# Altium footprint library Footprints_integrated.PcbLib: 5 footprints
Each footprint in its own frame and in the unit in brackets; x right, y up, seen from the top. Pads: shape width x height; smd on the part's side, far side on the other; paste and mask are expansions set on the pad; w line width, h text height; cw(c..) or ccw(c..) is an arc to the next point about the centre after c.
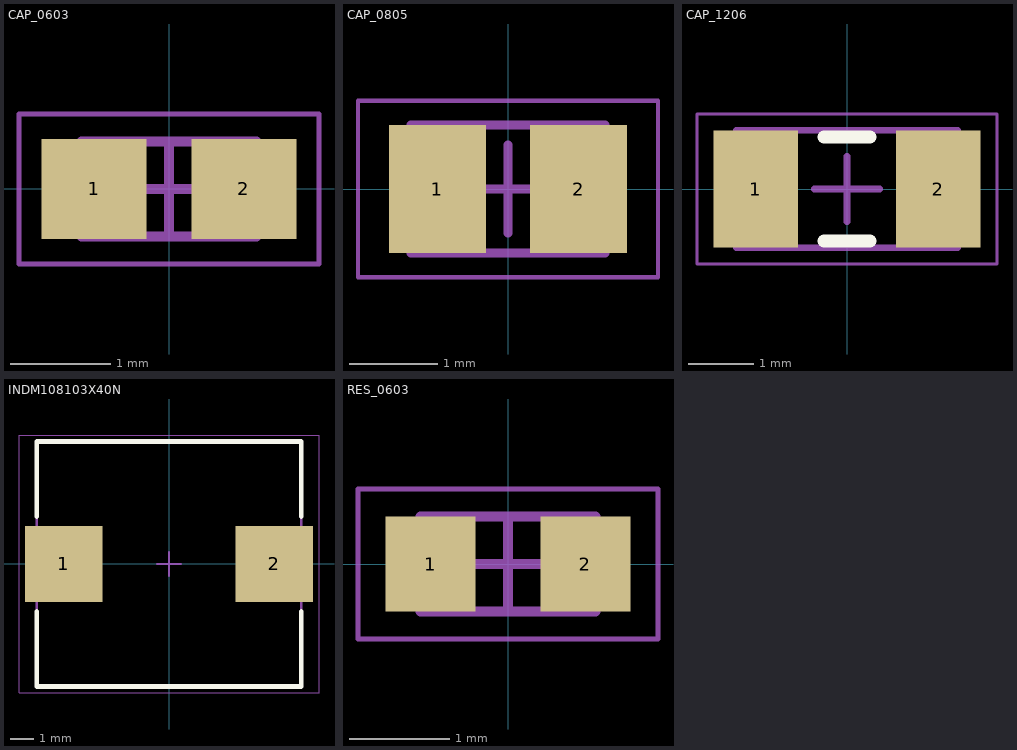
[diagram p0: the footprints below, top view; thin cyan lines are the x and y axes]

## CAP_0603 [mm] "Chip Capacitor, 2-Leads, Body 1.60x0.80mm, IPC Medium Density"
height 0.8
pads (2):
  rect 1.05x1 smd: 1(-0.75,0) 2(0.75,0)
Mechanical 13:
  lines w0.1: -0.875,-0.475 -0.875,0.475 0.875,0.475 0.875,-0.475 -0.875,-0.475
Mechanical 15:
  lines w0.05: -1.5,-0.75 -1.5,0.75 1.5,0.75 1.5,-0.75 -1.5,-0.75
  lines w0.1: -0.475,0 0.475,0 ; 0,-0.475 0,0.475
3D body "CAP_0603.step": height 0.8, standoff 0, extent -0.875,-0.475 0.875,0.475

## CAP_0805 [mm] "Chip Capacitor, 2-Leads, Body 2.00x1.25mm, IPC Medium Density"
height 0.6
pads (2):
  rect 1.1x1.45 smd: 1(-0.8,0) 2(0.8,0)
Mechanical 13:
  lines w0.1: -1.1,-0.725 1.1,-0.725 1.1,0.725 -1.1,0.725 -1.1,-0.725
Mechanical 15:
  lines w0.05: -1.7,-1 1.7,-1 1.7,1 -1.7,1 -1.7,-1
  lines w0.1: -0.5,0 0.5,0 ; 0,-0.5 0,0.5
3D body "CAP_0805.step": height 0.6, standoff 0, extent -1.1,-0.725 1.1,0.725

## CAP_1206 [mm] "Chip Capacitor, 2-Leads, Body 3.20x1.60mm, IPC Medium Density"
height 0.9
pads (2):
  rect 1.3x1.8 smd: 1(-1.4,0) 2(1.4,0)
Top Overlay:
  lines w0.2: -0.35,-0.8 0.35,-0.8 ; -0.35,0.8 0.35,0.8
Mechanical 13:
  lines w0.1: -1.7,-0.9 1.7,-0.9 1.7,0.9 -1.7,0.9 -1.7,-0.9
Mechanical 15:
  lines w0.05: -2.3,-1.15 2.3,-1.15 2.3,1.15 -2.3,1.15 -2.3,-1.15
  lines w0.1: -0.5,0 0.5,0 ; 0,-0.5 0,0.5
3D body "CAP_1206.step": height 0.9, standoff 0, extent -1.7,-0.9 1.7,0.9

## INDM108103X40N [mm] "Molded Inductor, 2-Leads, Body 10.80x10.31mm, IPC Medium Density"
height 4
pads (2):
  rect 3.25x3.2 smd: 1(-4.425,0) 2(4.425,0)
Top Overlay:
  lines w0.2: -5.55,-2 -5.55,-5.15 5.55,-5.15 5.55,-2 ; -5.55,2 -5.55,5.15 5.55,5.15 5.55,2
Mechanical 13:
  lines w0.1: -5.55,-5.145 5.55,-5.145 5.55,5.145 -5.55,5.145 -5.55,-5.145
Mechanical 15:
  lines w0.05: -6.3,-5.4 6.3,-5.4 6.3,5.4 -6.3,5.4 -6.3,-5.4
  lines w0.1: -0.5,0 0.5,0 ; 0,-0.5 0,0.5
3D body "INDM108103X40N.step": height 4, standoff 0, extent -5.77,-5.145 5.77,5.145

## RES_0603 [mm] "Chip Resistor, 2-Leads, Body 1.60x0.80mm, IPC Medium Density"
height 0.8
pads (2):
  rect 0.9x0.95 smd: 1(-0.775,0) 2(0.775,0)
Mechanical 13:
  lines w0.1: -0.875,-0.475 0.875,-0.475 0.875,0.475 -0.875,0.475 -0.875,-0.475
Mechanical 15:
  lines w0.05: -1.5,-0.75 1.5,-0.75 1.5,0.75 -1.5,0.75 -1.5,-0.75
  lines w0.1: -0.475,0 0.475,0 ; 0,-0.475 0,0.475
3D body "RES_0603.step": height 0.8, standoff 0, extent -0.875,-0.475 0.875,0.475